# Altium schematic symbol library ic-memory.SchLib: 17 symbols
Pins are listed as number, name and electrical type; pins without a type are passive.

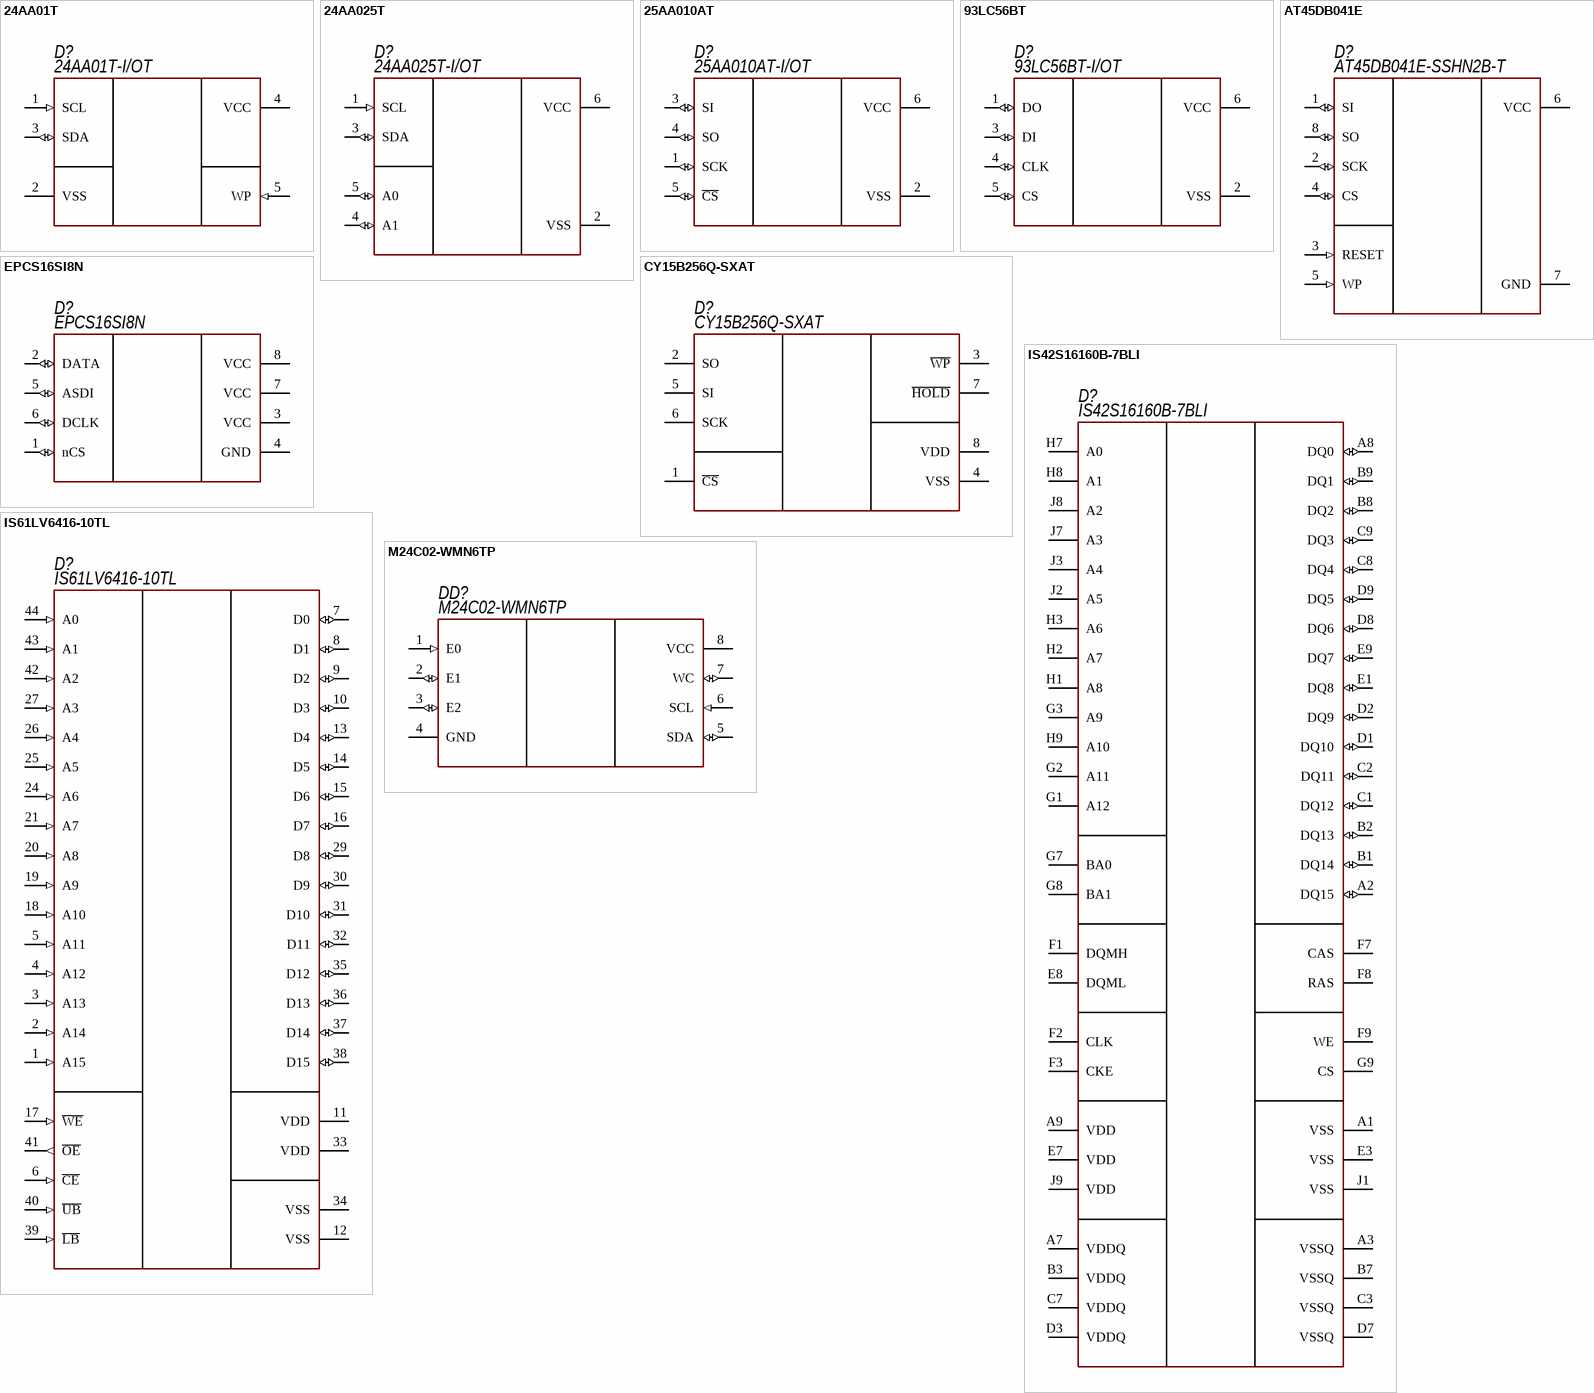
[diagram p0: symbols 24AA01T to M24C02-WMN6TP]

## 24AA01T
designator D?  PartNumber: 24AA01T-I/OT
EEPROM; Manufacturer: Microchip Technology; ValueManufacturerPartNumber: IC memory, EEPROM, 1KB (128x8), 400 kHz, I2C, 1.7...5.5V, -40...+85°C, SOT-23-5; Supply: 1.7...5.5V; Speed: 400 kHz; InterfaceData: I2C; MemorySize: 1KB (128x8); HelpURL: https://www.digikey.com/product-detail/en/microchip-technology/24AA01T-I-OT/24AA01T-I-OTCT-ND/857670; Package: SOT-23-5; ComponentType: IC memory; Temperature: -40...+85°C; MemoryType: EEPROM
footprint SOT23-5 (pitch 0.95 mm)
pins: 1 SCL (in), 2 VSS (power), 3 SDA (io), 4 VCC (power), 5 WP (in)

## 24AA025T
designator D?  PartNumber: 24AA025T-I/OT
EEPROM; Manufacturer: Microchip Technology; ValueManufacturerPartNumber: IC memory, EEPROM, 2KB (256x8), 400 kHz, I2C, 1.7...5.5V, -40...+85°C, SOT-23-6; Supply: 1.7...5.5V; Speed: 400 kHz; InterfaceData: I2C; MemorySize: 2KB (256x8); HelpURL: https://www.digikey.com/product-detail/en/microchip-technology/24AA025T-I-OT/24AA025T-I-OTCT-ND/2060104; Package: SOT-23-6; ComponentType: IC memory; Temperature: -40...+85°C; MemoryType: EEPROM
footprint SOT23-6 (pitch 0.95 mm)
pins: 1 SCL (in), 2 VSS (power), 3 SDA (io), 4 A1 (io), 5 A0 (io), 6 VCC (power)

## 25AA010AT
designator D?  PartNumber: 25AA010AT-I/OT
EEPROM; Manufacturer: Microchip Technology; ValueManufacturerPartNumber: IC memory, EEPROM, 1KB (128x8), 10 MHz, SPI, 1.8...5.5V, -40...+85°C, SOT-23-6; Supply: 1.8...5.5V; Speed: 10 MHz; InterfaceData: SPI; MemorySize: 1KB (128x8); HelpURL: https://www.digikey.com/product-detail/en/microchip-technology/25AA010AT-I-OT/25AA010AT-I-OTCT-ND/1212539; Package: SOT-23-6; ComponentType: IC memory; Temperature: -40...+85°C; MemoryType: EEPROM
footprint SOT23-6 (pitch 0.95 mm)
pins: 1 SCK (io), 2 VSS (power), 3 SI (io), 4 SO (io), 5 ~{CS} (io), 6 VCC (power)

## 93LC56BT
designator D?  PartNumber: 93LC56BT-I/OT
EEPROM; Manufacturer: Microchip Technology; ValueManufacturerPartNumber: IC memory, EEPROM, 2KB (256x8), 2 MHz, SPI, 2.5...5.5V, -40...+85°C, SOT-23-6; Supply: 2.5...5.5V; Speed: 2 MHz; InterfaceData: SPI; MemorySize: 2KB (256x8); HelpURL: https://www.digikey.com/product-detail/en/microchip-technology/93LC56BT-I-OT/93LC56BT-I-OTCT-ND/857632; Package: SOT-23-6; ComponentType: IC memory; Temperature: -40...+85°C; MemoryType: EEPROM
footprint SOT23-6 (pitch 0.95 mm)
pins: 1 DO (io), 2 VSS (power), 3 DI (io), 4 CLK (io), 5 CS (io), 6 VCC (power)

## AT45DB041E
designator D?  PartNumber: AT45DB041E-SSHN2B-T
FLASH; Manufacturer: Adesto Technologies; ValueManufacturerPartNumber: IC memory, FLASH, 4Mb, 85 MHz, SPI, 1.65...3.6V, -40...+85°C, 8-SOIC; Supply: 1.65...3.6V; Speed: 85 MHz; InterfaceData: SPI; MemorySize: 4Mb; HelpURL: https://www.digikey.com/product-detail/en/adesto-technologies/AT45DB041E-SSHN2B-T/AT45DB041E-SSHN2B-TCT-ND/4311898; Package: 8-SOIC; ComponentType: IC memory; Temperature: -40...+85°C; MemoryType: FLASH
footprint 8-SOIC (pitch 1.27 mm)
pins: 1 SI (io), 2 SCK (io), 3 RESET (in), 4 CS (io), 5 WP (in), 6 VCC (power), 7 GND (power), 8 SO (io)

## CY15B256Q-SXAT
designator D?  PartNumber: CY15B256Q-SXAT
FLASH; Manufacturer: Cypress; ValueManufacturerPartNumber: IC memory, FRAM, 256Kb (32K x 8), 40 MHz, SPI, 2...3.6V, -40...+85°C, 8-SOIC; Supply: 2...3.6V; Speed: 40 MHz; InterfaceData: SPI; MemorySize: 256Kb (32K x 8); MemoryType: FRAM; HelpURL: https://www.digikey.com/product-detail/en/cypress-semiconductor-corp/CY15B256Q-SXAT/2015-CY15B256Q-SXATCT-ND/9954524; Package: 8-SOIC; ComponentType: IC memory; Temperature: -40...+85°C
footprint 8-SOIC (pitch 1.27 mm)
pins: 1 ~{CS}, 2 SO, 3 ~{WP}, 4 VSS, 5 SI, 6 SCK, 7 ~{HOLD}, 8 VDD

## EPCS16SI8N
designator D?  PartNumber: EPCS16SI8N
FLASH; Manufacturer: Intel; ValueManufacturerPartNumber: IC memory, FLASH, 16Mb, 100 MHz, SPI, 2.7...3.6V, -40...+85°C, 8-SOIC; Supply: 2.7...3.6V; Speed: 100 MHz; InterfaceData: SPI; MemorySize: 16Mb; HelpURL: https://www.digikey.com/products/en?keywords=EPCS16SI8N; Package: 8-SOIC; ComponentType: IC memory; Temperature: -40...+85°C; MemoryType: FLASH
footprint 8-SOIC (pitch 1.27 mm)
pins: 1 nCS (io) "Active low, chip select input", 2 DATA (io) "Serial data out", 3 VCC (power) "3.3V supply", 4 GND (power) "Ground", 5 ASDI (io) "AS data in", 6 DCLK (io) "Provides timing of the serial interface", 7 VCC (power) "3.3V supply", 8 VCC (power) "3.3V supply"

## IS42S16160B-7BLI
designator D?  PartNumber: IS42S16160B-7BLI
SDRAM; Manufacturer: ISSI; ValueManufacturerPartNumber: IC memory, SDRAM, 256Mb (16M x 16), 143 MHz, Parallel, 3...3.6V, -40...+85°C, 54-LFBGA; Supply: 3...3.6V; Speed: 143 MHz; InterfaceData: Parallel; MemorySize: 256Mb (16M x 16); HelpURL: https://www.digikey.com/product-detail/en/issi-integrated-silicon-solution-inc/IS42S16160B-7BLI/IS42S16160B-7BLI-ND/1556922; Package: 54-LFBGA; ComponentType: IC memory; Temperature: -40...+85°C; MemoryType: SDRAM
footprint 54-LFBGA (pitch 0.8 mm)
pins: A1 VSS, A2 DQ15 (io), A3 VSSQ, A7 VDDQ, A8 DQ0 (io), A9 VDD, B1 DQ14 (io), B2 DQ13 (io), B3 VDDQ, B7 VSSQ, B8 DQ2 (io), B9 DQ1 (io), C1 DQ12 (io), C2 DQ11 (io), C3 VSSQ, C7 VDDQ, C8 DQ4 (io), C9 DQ3 (io), D1 DQ10 (io), D2 DQ9 (io), D3 VDDQ, D7 VSSQ, D8 DQ6 (io), D9 DQ5 (io), E1 DQ8 (io), E3 VSS, E7 VDD, E8 DQML, E9 DQ7 (io), F1 DQMH, F2 CLK, F3 CKE, F7 CAS, F8 RAS, F9 WE, G1 A12, G2 A11, G3 A9, G7 BA0, G8 BA1, G9 CS, H1 A8, H2 A7, H3 A6, H7 A0, H8 A1, H9 A10, J1 VSS, J2 A5, J3 A4, J7 A3, J8 A2, J9 VDD

## IS61LV6416-10TL
designator D?  PartNumber: IS61LV6416-10TL
SRAM; Manufacturer: ISSI; ValueManufacturerPartNumber: IC memory, SRAM, 1Mb (64K x 16), 10 ns, Parallel, 3.135...3.6V, 0...+70°C, 44-TSOP; Supply: 3.135...3.6V; Speed: 10 ns; InterfaceData: Parallel; MemorySize: 1Mb (64K x 16); HelpURL: https://www.digikey.com/product-detail/en/issi-integrated-silicon-solution-inc/IS61LV6416-10TL/706-1039-ND/1555412; Package: 44-TSOP; ComponentType: IC memory; Temperature: 0...+70°C; MemoryType: SRAM
footprint 44-TSOP (pitch 0.8 mm)
pins: 1 A15 (in), 2 A14 (in), 3 A13 (in), 4 A12 (in), 5 A11 (in), 6 ~{CE} (in), 7 D0 (io), 8 D1 (io), 9 D2 (io), 10 D3 (io), 11 VDD (power), 12 VSS (power), 13 D4 (io), 14 D5 (io), 15 D6 (io), 16 D7 (io), 17 ~{WE} (in), 18 A10 (in), 19 A9 (in), 20 A8 (in), 21 A7 (in), 24 A6 (in), 25 A5 (in), 26 A4 (in), 27 A3 (in), 29 D8 (io), 30 D9 (io), 31 D10 (io), 32 D11 (io), 33 VDD (power), 34 VSS (power), 35 D12 (io), 36 D13 (io), 37 D14 (io), 38 D15 (io), 39 ~{LB} (in), 40 ~{UB} (in), 41 ~{OE} (out), 42 A2 (in), 43 A1 (in), 44 A0 (in)

## M24C02-WMN6TP
designator DD?  PartNumber: M24C02-WMN6TP
EEPROM; Manufacturer: Winbond Electronics; ValueManufacturerPartNumber: IC memory, FLASH, 128Mb (16M x 8), 104 MHz, SPI/QuadSPI, 2.7...3.6V, -40...+85°C, 8-WSON; Supply: 2.7...3.6V; Speed: 104 MHz; InterfaceData: SPI/QuadSPI; MemorySize: 128Mb (16M x 8); MemoryType: FLASH; HelpURL: https://www.digikey.com/product-detail/en/winbond-electronics/W25Q128FVPIG/W25Q128FVPIG-ND/4037386; Package: 8-WSON; ComponentType: IC memory; Temperature: -40...+85°C
footprint 8-SOIC (pitch 1.27 mm)
pins: 1 E0 (in), 2 E1 (io), 3 E2 (io), 4 GND (power), 5 SDA (io), 6 SCL (in), 7 WC (io), 8 VCC (power)

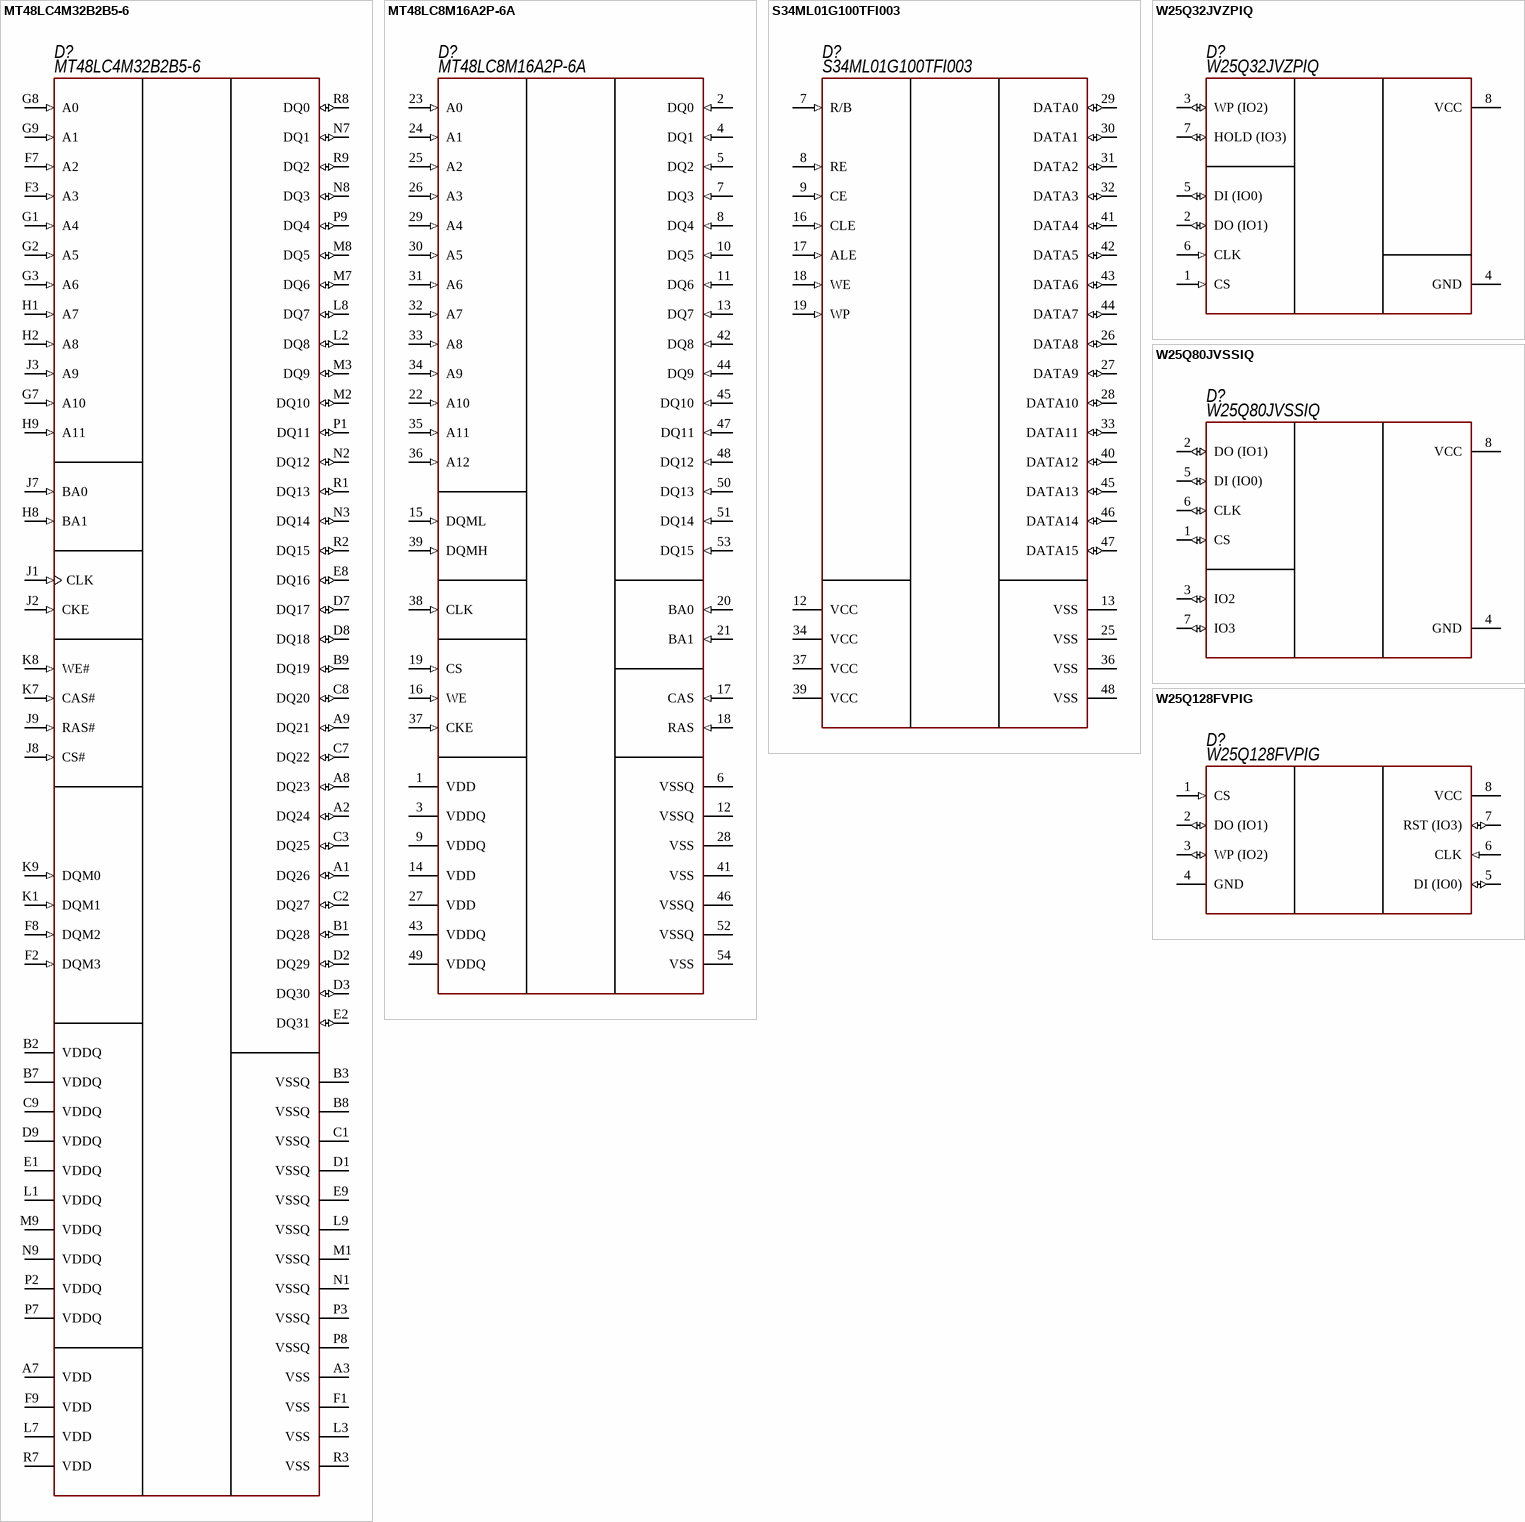
[diagram p1: symbols MT48LC4M32B2B5-6 to W25Q128FVPIG]

## MT48LC4M32B2B5-6
designator D?  PartNumber: MT48LC4M32B2B5-6
SDRAM; Manufacturer: Micron Technology; ValueManufacturerPartNumber: IC memory, SDRAM, 128Mb (4M x 32), 167 MHz, Parallel, 3...3.6V, 0...+70°C, 90-VFBGA; Supply: 3...3.6V; Speed: 167 MHz; InterfaceData: Parallel; MemorySize: 128Mb (4M x 32); HelpURL: https://www.digikey.com/product-detail/en/micron-technology-inc/MT48LC4M32B2B5-6A-L-TR/557-1948-1-ND/9673929; Package: 90-VFBGA; ComponentType: IC memory; Temperature: 0...+70°C; MemoryType: SDRAM
footprint 90-VFBGA (pitch 0.8mm)
pins: A1 DQ26 (io) "Data input/output: Data bus.", A2 DQ24 (io) "Data input/output: Data bus.", A3 VSS (power) "Ground.", A7 VDD (power) "Power supply: 3.3V +/-0.3V.", A8 DQ23 (io) "Data input/output: Data bus.", A9 DQ21 (io) "Data input/output: Data bus.", B1 DQ28 (io) "Data input/output: Data bus.", B2 VDDQ (power) "DQ power supply: Isolated on the die for improved noise immunity.", B3 VSSQ (power) "DQ ground: Provides isolated ground to DQs for improved noise immunity.", B7 VDDQ (power) "DQ power supply: Isolated on the die for improved noise immunity.", B8 VSSQ (power) "DQ ground: Provides isolated ground to DQs for improved noise immunity.", B9 DQ19 (io) "Data input/output: Data bus.", C1 VSSQ (power) "DQ ground: Provides isolated ground to DQs for improved noise immunity.", C2 DQ27 (io) "Data input/output: Data bus.", C3 DQ25 (io) "Data input/output: Data bus.", C7 DQ22 (io) "Data input/output: Data bus.", C8 DQ20 (io) "Data input/output: Data bus.", C9 VDDQ (power) "DQ power supply: Isolated on the die for improved noise immunity.", D1 VSSQ (power) "DQ ground: Provides isolated ground to DQs for improved noise immunity.", D2 DQ29 (io) "Data input/output: Data bus.", D3 DQ30 (io) "Data input/output: Data bus.", D7 DQ17 (io) "Data input/output: Data bus.", D8 DQ18 (io) "Data input/output: Data bus.", D9 VDDQ (power) "DQ power supply: Isolated on the die for improved noise immunity.", E1 VDDQ (power) "DQ power supply: Isolated on the die for improved noise immunity.", E2 DQ31 (io) "Data input/output: Data bus.", E8 DQ16 (io) "Data input/output: Data bus.", E9 VSSQ (power) "DQ ground: Provides isolated ground to DQs for improved noise immunity.", F1 VSS (power) "Ground.", F2 DQM3 (in) "Input/output mask: DQM is sampled HIGH and is an input mask signal for write accesses and an output enable signal for read accesses. Input data is masked during a WRITE cycle. The output buffers are High-Z (two-clock (See Datasheet)", F3 A3 (in) "Address inputs: A[11:0] are sampled during the ACTIVE command (row address A[10:0]) and READ or WRITE command (column address A[7:0] with A10 defining auto precharge) to select one location out of the memory array in the (See Datasheet)", F7 A2 (in) "Address inputs: A[11:0] are sampled during the ACTIVE command (row address A[10:0]) and READ or WRITE command (column address A[7:0] with A10 defining auto precharge) to select one location out of the memory array in the (See Datasheet)", F8 DQM2 (in) "Input/output mask: DQM is sampled HIGH and is an input mask signal for write accesses and an output enable signal for read accesses. Input data is masked during a WRITE cycle. The output buffers are High-Z (two-clock (See Datasheet)", F9 VDD (power) "Power supply: 3.3V +/-0.3V.", G1 A4 (in) "Address inputs: A[11:0] are sampled during the ACTIVE command (row address A[10:0]) and READ or WRITE command (column address A[7:0] with A10 defining auto precharge) to select one location out of the memory array in the (See Datasheet)", G2 A5 (in) "Address inputs: A[11:0] are sampled during the ACTIVE command (row address A[10:0]) and READ or WRITE command (column address A[7:0] with A10 defining auto precharge) to select one location out of the memory array in the (See Datasheet)", G3 A6 (in) "Address inputs: A[11:0] are sampled during the ACTIVE command (row address A[10:0]) and READ or WRITE command (column address A[7:0] with A10 defining auto precharge) to select one location out of the memory array in the (See Datasheet)", G7 A10 (in) "Address inputs: A[11:0] are sampled during the ACTIVE command (row address A[10:0]) and READ or WRITE command (column address A[7:0] with A10 defining auto precharge) to select one location out of the memory array in the (See Datasheet)", G8 A0 (in) "Address inputs: A[11:0] are sampled during the ACTIVE command (row address A[10:0]) and READ or WRITE command (column address A[7:0] with A10 defining auto precharge) to select one location out of the memory array in the (See Datasheet)", G9 A1 (in) "Address inputs: A[11:0] are sampled during the ACTIVE command (row address A[10:0]) and READ or WRITE command (column address A[7:0] with A10 defining auto precharge) to select one location out of the memory array in the (See Datasheet)", H1 A7 (in) "Address inputs: A[11:0] are sampled during the ACTIVE command (row address A[10:0]) and READ or WRITE command (column address A[7:0] with A10 defining auto precharge) to select one location out of the memory array in the (See Datasheet)", H2 A8 (in) "Address inputs: A[11:0] are sampled during the ACTIVE command (row address A[10:0]) and READ or WRITE command (column address A[7:0] with A10 defining auto precharge) to select one location out of the memory array in the (See Datasheet)", H8 BA1 (in) "Bank address inputs: BA[1:0] define to which bank the ACTIVE, READ, WRITE, or PRECHARGE command is being applied.", H9 A11 (in) "Address inputs: A[11:0] are sampled during the ACTIVE command (row address A[10:0]) and READ or WRITE command (column address A[7:0] with A10 defining auto precharge) to select one location out of the memory array in the (See Datasheet)", J1 CLK (in) "Clock: CLK is driven by the system clock. All SDRAM input signals are sampled on the positive edge of CLK. CLK also increments the internal burst counter and controls the output registers.", J2 CKE (in) "Clock enable: CKE activates (HIGH) and deactivates (LOW) the CLK signal. Deactivating the clock provides precharge power-down and SELF REFRESH operation (all banks idle), active power-down (row active in any bank), or CLOCK (See Datasheet)", J3 A9 (in) "Address inputs: A[11:0] are sampled during the ACTIVE command (row address A[10:0]) and READ or WRITE command (column address A[7:0] with A10 defining auto precharge) to select one location out of the memory array in the (See Datasheet)", J7 BA0 (in) "Bank address inputs: BA[1:0] define to which bank the ACTIVE, READ, WRITE, or PRECHARGE command is being applied.", J8 CS# (in) "Chip select: CS# enables (registered LOW) and disables (registered HIGH) the command decoder. All commands are masked when CS# is registered HIGH, but READ/WRITE bursts already in progress will continue, and DQM operation (See Datasheet)", J9 RAS# (in) "Command inputs: CAS#, RAS#, and WE# (along with CS#) define the command being entered.", K1 DQM1 (in) "Input/output mask: DQM is sampled HIGH and is an input mask signal for write accesses and an output enable signal for read accesses. Input data is masked during a WRITE cycle. The output buffers are High-Z (two-clock (See Datasheet)", K7 CAS# (in) "Command inputs: CAS#, RAS#, and WE# (along with CS#) define the command being entered.", K8 WE# (in) "Command inputs: CAS#, RAS#, and WE# (along with CS#) define the command being entered.", K9 DQM0 (in) "Input/output mask: DQM is sampled HIGH and is an input mask signal for write accesses and an output enable signal for read accesses. Input data is masked during a WRITE cycle. The output buffers are High-Z (two-clock (See Datasheet)", L1 VDDQ (power) "DQ power supply: Isolated on the die for improved noise immunity.", L2 DQ8 (io) "Data input/output: Data bus.", L3 VSS (power) "Ground.", L7 VDD (power) "Power supply: 3.3V +/-0.3V.", L8 DQ7 (io) "Data input/output: Data bus.", L9 VSSQ (power) "DQ ground: Provides isolated ground to DQs for improved noise immunity.", M1 VSSQ (power) "DQ ground: Provides isolated ground to DQs for improved noise immunity.", M2 DQ10 (io) "Data input/output: Data bus.", M3 DQ9 (io) "Data input/output: Data bus.", M7 DQ6 (io) "Data input/output: Data bus.", M8 DQ5 (io) "Data input/output: Data bus.", M9 VDDQ (power) "DQ power supply: Isolated on the die for improved noise immunity.", N1 VSSQ (power) "DQ ground: Provides isolated ground to DQs for improved noise immunity.", N2 DQ12 (io) "Data input/output: Data bus.", N3 DQ14 (io) "Data input/output: Data bus.", N7 DQ1 (io) "Data input/output: Data bus.", N8 DQ3 (io) "Data input/output: Data bus.", N9 VDDQ (power) "DQ power supply: Isolated on the die for improved noise immunity.", P1 DQ11 (io) "Data input/output: Data bus.", P2 VDDQ (power) "DQ power supply: Isolated on the die for improved noise immunity.", P3 VSSQ (power) "DQ ground: Provides isolated ground to DQs for improved noise immunity.", P7 VDDQ (power) "DQ power supply: Isolated on the die for improved noise immunity.", P8 VSSQ (power) "DQ ground: Provides isolated ground to DQs for improved noise immunity.", P9 DQ4 (io) "Data input/output: Data bus.", R1 DQ13 (io) "Data input/output: Data bus.", R2 DQ15 (io) "Data input/output: Data bus.", R3 VSS (power) "Ground.", R7 VDD (power) "Power supply: 3.3V +/-0.3V.", R8 DQ0 (io) "Data input/output: Data bus.", R9 DQ2 (io) "Data input/output: Data bus."

## MT48LC8M16A2P-6A
designator D?  PartNumber: MT48LC8M16A2P-6A
SDRAM; Manufacturer: Micron Technology; ValueManufacturerPartNumber: IC memory, SDRAM, 128Mb (4M x 32), 167 MHz, Parallel, 3...3.6V, -40...+85°C, 54-TSOP; Supply: 3...3.6V; Speed: 167 MHz; InterfaceData: Parallel; MemorySize: 128Mb (4M x 32); HelpURL: https://www.digikey.com/product-detail/en/micron-technology-inc/MT48LC8M16A2P-6A-IT-L-TR/557-1959-1-ND/9673940; Package: 54-TSOP; ComponentType: IC memory; Temperature: -40...+85°C; MemoryType: SDRAM
footprint 54-TSOP (pitch 0.8 mm)
pins: 1 VDD, 2 DQ0 (in), 3 VDDQ, 4 DQ1 (in), 5 DQ2 (in), 6 VSSQ, 7 DQ3 (in), 8 DQ4 (in), 9 VDDQ, 10 DQ5 (in), 11 DQ6 (in), 12 VSSQ, 13 DQ7 (in), 14 VDD, 15 DQML (in), 16 WE (in), 17 CAS (in), 18 RAS (in), 19 CS (in), 20 BA0 (in), 21 BA1 (in), 22 A10 (in), 23 A0 (in), 24 A1 (in), 25 A2 (in), 26 A3 (in), 27 VDD, 28 VSS, 29 A4 (in), 30 A5 (in), 31 A6 (in), 32 A7 (in), 33 A8 (in), 34 A9 (in), 35 A11 (in), 36 A12 (in), 37 CKE (in), 38 CLK (in), 39 DQMH (in), 41 VSS, 42 DQ8 (in), 43 VDDQ, 44 DQ9 (in), 45 DQ10 (in), 46 VSSQ, 47 DQ11 (in), 48 DQ12 (in), 49 VDDQ, 50 DQ13 (in), 51 DQ14 (in), 52 VSSQ, 53 DQ15 (in), 54 VSS

## S34ML01G100TFI003
designator D?  PartNumber: S34ML01G100TFI003
FLASH; Manufacturer: Cypress Semiconductor; ValueManufacturerPartNumber: IC memory, FLASH, 1Gb (128M x 8), 133 MHz, Parallel, 2.7...3.6V, -40...+85°C, 48-TFSOP; Supply: 2.7...3.6V; Speed: 133 MHz; InterfaceData: Parallel; MemorySize: 1Gb (128M x 8); HelpURL: https://www.digikey.com/product-detail/en/cypress-semiconductor-corp/S34ML01G100TFI003/1274-1070-1-ND/4309180; Package: 48-TFSOP; ComponentType: IC memory; Temperature: -40...+85°C; MemoryType: FLASH
footprint 48-TFSOP (pitch 0.5 mm)
pins: 7 R/B (in), 8 RE (in), 9 CE (in), 12 VCC, 13 VSS, 16 CLE (in), 17 ALE (in), 18 WE (in), 19 WP (in), 25 VSS, 26 DATA8 (io), 27 DATA9 (io), 28 DATA10 (io), 29 DATA0 (io), 30 DATA1 (io), 31 DATA2 (io), 32 DATA3 (io), 33 DATA11 (io), 34 VCC, 36 VSS, 37 VCC, 39 VCC, 40 DATA12 (io), 41 DATA4 (io), 42 DATA5 (io), 43 DATA6 (io), 44 DATA7 (io), 45 DATA13 (io), 46 DATA14 (io), 47 DATA15 (io), 48 VSS

## W25Q32JVZPIQ
designator D?  PartNumber: W25Q32JVZPIQ
FLASH; Manufacturer: Winbond Electronics; ValueManufacturerPartNumber: IC memory, FLASH, 32Mb (4M x 8), 133 MHz, SPI/QuadSPI, 2.7...3.6V, -40...+85°C, 8-WDFN; Supply: 2.7...3.6V; Speed: 133 MHz; InterfaceData: SPI/QuadSPI; MemorySize: 32Mb (4M x 8); HelpURL: https://www.digikey.com/product-detail/en/winbond-electronics/W25Q32JVZPIQ/W25Q32JVZPIQ-ND/6167525; Package: 8-WDFN; ComponentType: IC memory; Temperature: -40...+85°C; MemoryType: FLASH
footprint 8-WSON (5x6) (5x6 mm, pitch 1.27 mm, power pad)
pins: 1 CS (in), 2 DO (IO1) (io), 3 WP (IO2) (io), 4 GND (power), 5 DI (IO0) (io), 6 CLK (in), 7 HOLD (IO3) (io), 8 VCC (power)

## W25Q80JVSSIQ
designator D?  PartNumber: W25Q80JVSSIQ
FLASH; Manufacturer: Winbond Electronics; ValueManufacturerPartNumber: IC memory, FLASH, 8Mb (1M x 8), 133 MHz, SPI/QuadSPI, 2.7...3.6V, -40...+85°C, 8-SOIC; Supply: 2.7...3.6V; Speed: 133 MHz; InterfaceData: SPI/QuadSPI; MemorySize: 8Mb (1M x 8); HelpURL: https://www.digikey.com/product-detail/en/winbond-electronics/W25Q80JVSSIQ/W25Q80JVSSIQ-ND/6193772; Package: 8-SOIC; ComponentType: IC memory; Temperature: -40...+85°C; MemoryType: FLASH
footprint 8-SOIC(208-mil)
pins: 1 CS (io), 2 DO (IO1) (io), 3 IO2 (io), 4 GND (power), 5 DI (IO0) (io), 6 CLK (io), 7 IO3 (io), 8 VCC (power)

## W25Q128FVPIG
designator D?  PartNumber: W25Q128FVPIG
FLASH; Manufacturer: Winbond Electronics; ValueManufacturerPartNumber: IC memory, FLASH, 128Mb (16M x 8), 104 MHz, SPI/QuadSPI, 2.7...3.6V, -40...+85°C, 8-WSON; Supply: 2.7...3.6V; Speed: 104 MHz; InterfaceData: SPI/QuadSPI; MemorySize: 128Mb (16M x 8); HelpURL: https://www.digikey.com/product-detail/en/winbond-electronics/W25Q128FVPIG/W25Q128FVPIG-ND/4037386; Package: 8-WSON; ComponentType: IC memory; Temperature: -40...+85°C; MemoryType: FLASH
footprint 8-SOIC (pitch 1.27 mm)
pins: 1 CS (in), 2 DO (IO1) (io), 3 WP (IO2) (io), 4 GND (power), 5 DI (IO0) (io), 6 CLK (in), 7 RST (IO3) (io), 8 VCC (power)

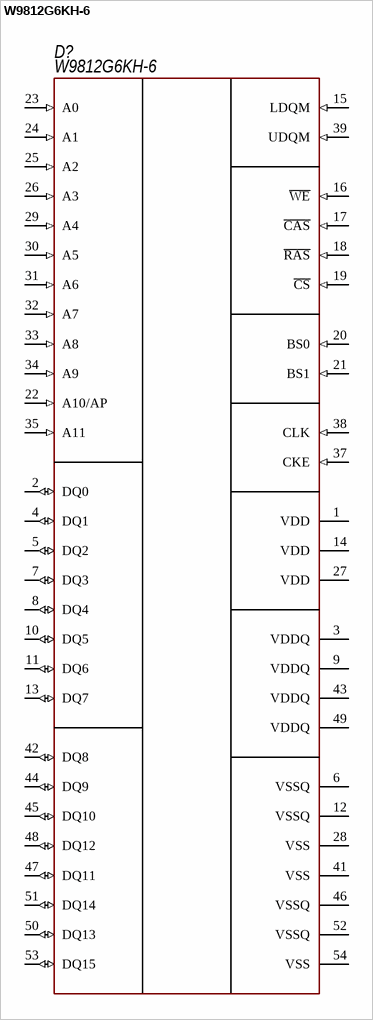
[diagram p2: symbol W9812G6KH-6]

## W9812G6KH-6
designator D?  PartNumber: W9812G6KH-6
SDRAM; Manufacturer: Winbond Electronics; ValueManufacturerPartNumber: IC memory, SDRAM, 128Mb (8M x 16), 166 MHz, Parallel, 3...3.6V, 0...+70°C, 54-TSOP; Supply: 3...3.6V; Speed: 166 MHz; InterfaceData: Parallel; MemorySize: 128Mb (8M x 16); HelpURL: https://www.digikey.com/product-detail/en/winbond-electronics/W9812G6KH-6/W9812G6KH-6-ND/4800163; Package: 54-TSOP; ComponentType: IC memory; Temperature: 0...+70°C; MemoryType: SDRAM
footprint 54-TSOP (pitch 0.8 mm)
pins: 1 VDD, 2 DQ0 (io), 3 VDDQ, 4 DQ1 (io), 5 DQ2 (io), 6 VSSQ, 7 DQ3 (io), 8 DQ4 (io), 9 VDDQ, 10 DQ5 (io), 11 DQ6 (io), 12 VSSQ, 13 DQ7 (io), 14 VDD, 15 LDQM (in), 16 ~{WE} (in), 17 ~{CAS} (in), 18 ~{RAS} (in), 19 ~{CS} (in), 20 BS0 (in), 21 BS1 (in), 22 A10/AP (in), 23 A0 (in), 24 A1 (in), 25 A2 (in), 26 A3 (in), 27 VDD, 28 VSS, 29 A4 (in), 30 A5 (in), 31 A6 (in), 32 A7 (in), 33 A8 (in), 34 A9 (in), 35 A11 (in), 37 CKE (in), 38 CLK (in), 39 UDQM (in), 41 VSS, 42 DQ8 (io), 43 VDDQ, 44 DQ9 (io), 45 DQ10 (io), 46 VSSQ, 47 DQ11 (io), 48 DQ12 (io), 49 VDDQ, 50 DQ13 (io), 51 DQ14 (io), 52 VSSQ, 53 DQ15 (io), 54 VSS